# Altium footprint library Texas Instruments Footprints.PcbLib: 429 footprints (part 27 of 32)
Each footprint in its own frame and in the unit in brackets; x right, y up, seen from the top. Pads: shape width x height; smd on the part's side, far side on the other; paste and mask are expansions set on the pad; w line width, h text height; cw(c..) or ccw(c..) is an arc to the next point about the centre after c.
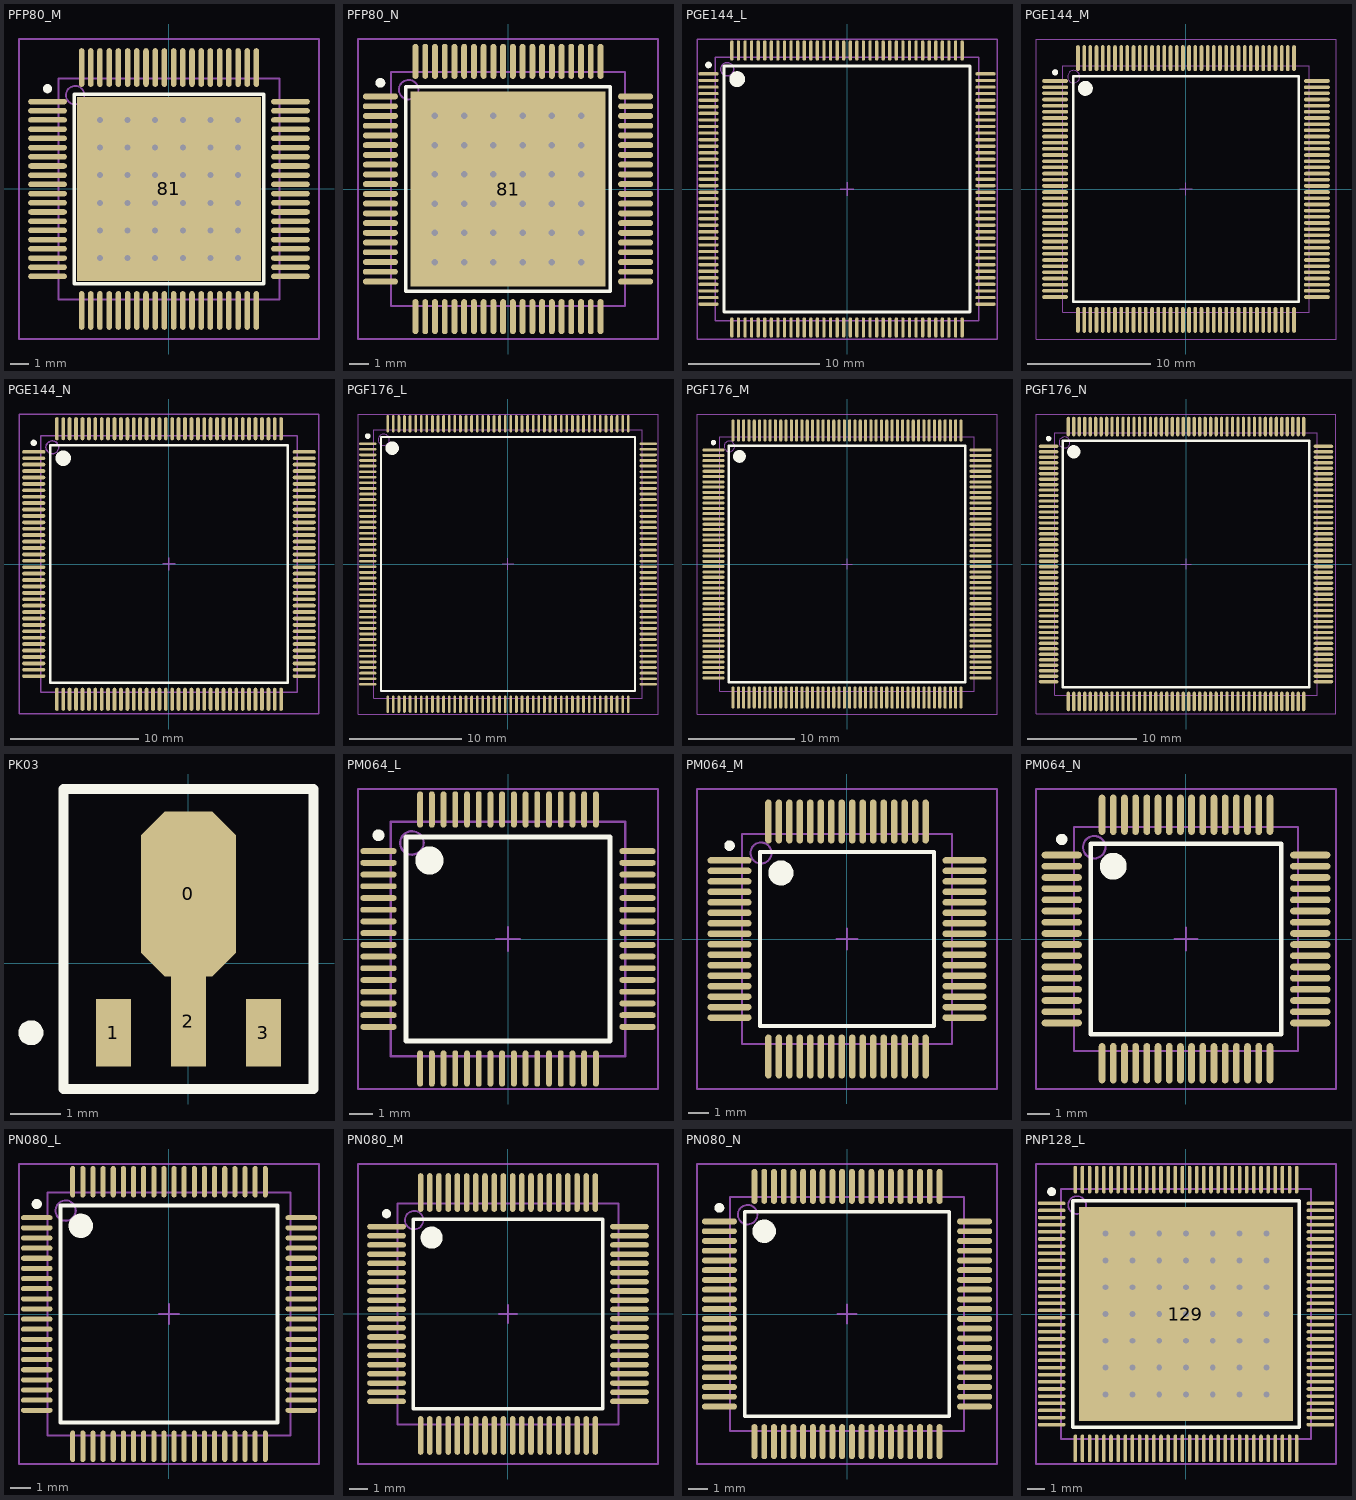
[diagram p26: the footprints below, top view; thin cyan lines are the x and y axes]

## PFP80_M [mm] "80-Pin Plastic Quad Flat Pack PowerPAD, IPC Low Density"
height 1.2
pads (81):
  oval 2.1x0.3 smd: 1(-6.6,4.75) 2(-6.6,4.25) 3(-6.6,3.75) 4(-6.6,3.25) 5(-6.6,2.75) 6(-6.6,2.25) 7(-6.6,1.75) 8(-6.6,1.25) 9(-6.6,0.75) 10(-6.6,0.25) 11(-6.6,-0.25) 12(-6.6,-0.75) 13(-6.6,-1.25) 14(-6.6,-1.75) 15(-6.6,-2.25) 16(-6.6,-2.75) 17(-6.6,-3.25) 18(-6.6,-3.75) 19(-6.6,-4.25) 20(-6.6,-4.75) 41(6.6,-4.75) 42(6.6,-4.25) 43(6.6,-3.75) 44(6.6,-3.25) 45(6.6,-2.75) 46(6.6,-2.25) 47(6.6,-1.75) 48(6.6,-1.25) 49(6.6,-0.75) 50(6.6,-0.25) 51(6.6,0.25) 52(6.6,0.75) 53(6.6,1.25) 54(6.6,1.75) 55(6.6,2.25) 56(6.6,2.75) 57(6.6,3.25) 58(6.6,3.75) 59(6.6,4.25) 60(6.6,4.75)
  oval 0.3x2.1 smd: 21(-4.75,-6.6) 22(-4.25,-6.6) 23(-3.75,-6.6) 24(-3.25,-6.6) 25(-2.75,-6.6) 26(-2.25,-6.6) 27(-1.75,-6.6) 28(-1.25,-6.6) 29(-0.75,-6.6) 30(-0.25,-6.6) 31(0.25,-6.6) 32(0.75,-6.6) 33(1.25,-6.6) 34(1.75,-6.6) 35(2.25,-6.6) 36(2.75,-6.6) 37(3.25,-6.6) 38(3.75,-6.6) 39(4.25,-6.6) 40(4.75,-6.6) 61(4.75,6.6) 62(4.25,6.6) 63(3.75,6.6) 64(3.25,6.6) 65(2.75,6.6) 66(2.25,6.6) 67(1.75,6.6) 68(1.25,6.6) 69(0.75,6.6) 70(0.25,6.6) 71(-0.25,6.6) 72(-0.75,6.6) 73(-1.25,6.6) 74(-1.75,6.6) 75(-2.25,6.6) 76(-2.75,6.6) 77(-3.25,6.6) 78(-3.75,6.6) 79(-4.25,6.6) 80(-4.75,6.6)
  rect 10x10 smd: 81(0,0)
via -0.75,-3.75 diameter 0.43 hole 0.33
via -2.25,-3.75 diameter 0.43 hole 0.33
via -3.75,-3.75 diameter 0.43 hole 0.33
via 0.75,-3.75 diameter 0.43 hole 0.33
via 2.25,-3.75 diameter 0.43 hole 0.33
via 3.75,-3.75 diameter 0.43 hole 0.33
via -0.75,-2.25 diameter 0.43 hole 0.33
via -2.25,-2.25 diameter 0.43 hole 0.33
via -3.75,-2.25 diameter 0.43 hole 0.33
via 0.75,-2.25 diameter 0.43 hole 0.33
via 2.25,-2.25 diameter 0.43 hole 0.33
via 3.75,-2.25 diameter 0.43 hole 0.33
via -0.75,-0.75 diameter 0.43 hole 0.33
via -2.25,-0.75 diameter 0.43 hole 0.33
via -3.75,-0.75 diameter 0.43 hole 0.33
via 0.75,-0.75 diameter 0.43 hole 0.33
via 2.25,-0.75 diameter 0.43 hole 0.33
via 3.75,-0.75 diameter 0.43 hole 0.33
via -0.75,3.75 diameter 0.43 hole 0.33
via -2.25,3.75 diameter 0.43 hole 0.33
via -3.75,3.75 diameter 0.43 hole 0.33
via 0.75,3.75 diameter 0.43 hole 0.33
via 2.25,3.75 diameter 0.43 hole 0.33
via 3.75,3.75 diameter 0.43 hole 0.33
via -0.75,2.25 diameter 0.43 hole 0.33
via -2.25,2.25 diameter 0.43 hole 0.33
via -3.75,2.25 diameter 0.43 hole 0.33
via 0.75,2.25 diameter 0.43 hole 0.33
via 2.25,2.25 diameter 0.43 hole 0.33
via 3.75,2.25 diameter 0.43 hole 0.33
via -0.75,0.75 diameter 0.43 hole 0.33
via -2.25,0.75 diameter 0.43 hole 0.33
via -3.75,0.75 diameter 0.43 hole 0.33
via 0.75,0.75 diameter 0.43 hole 0.33
via 2.25,0.75 diameter 0.43 hole 0.33
via 3.75,0.75 diameter 0.43 hole 0.33
Top Overlay:
  circle w0.25: c-6.6,5.45 r0.125
  circle w0.6: c-4.15,4.15 r0.3
  lines w0.2: -5.15,-5.15 -5.15,5.15 5.15,5.15 5.15,-5.15 -5.15,-5.15
Mechanical 13:
  circle w0.1: c-5.1,5.1 r0.5
  lines w0.1: -6,-6 -6,6 6,6 6,-6 -6,-6
Mechanical 15:
  lines w0.1: -0.5,0 0.5,0 ; 0,-0.5 0,0.5 ; -8.15,-8.15 -8.15,8.15 8.15,8.15 8.15,-8.15 -8.15,-8.15
3D body: height 1.2, standoff 0, extent -6,-6 6,6

## PFP80_N [mm] "80-Pin Plastic Quad Flat Pack PowerPAD, IPC Medium Density"
height 1.2
pads (81):
  oval 1.8x0.3 smd: 1(-6.55,4.75) 2(-6.55,4.25) 3(-6.55,3.75) 4(-6.55,3.25) 5(-6.55,2.75) 6(-6.55,2.25) 7(-6.55,1.75) 8(-6.55,1.25) 9(-6.55,0.75) 10(-6.55,0.25) 11(-6.55,-0.25) 12(-6.55,-0.75) 13(-6.55,-1.25) 14(-6.55,-1.75) 15(-6.55,-2.25) 16(-6.55,-2.75) 17(-6.55,-3.25) 18(-6.55,-3.75) 19(-6.55,-4.25) 20(-6.55,-4.75) 41(6.55,-4.75) 42(6.55,-4.25) 43(6.55,-3.75) 44(6.55,-3.25) 45(6.55,-2.75) 46(6.55,-2.25) 47(6.55,-1.75) 48(6.55,-1.25) 49(6.55,-0.75) 50(6.55,-0.25) 51(6.55,0.25) 52(6.55,0.75) 53(6.55,1.25) 54(6.55,1.75) 55(6.55,2.25) 56(6.55,2.75) 57(6.55,3.25) 58(6.55,3.75) 59(6.55,4.25) 60(6.55,4.75)
  oval 0.3x1.8 smd: 21(-4.75,-6.55) 22(-4.25,-6.55) 23(-3.75,-6.55) 24(-3.25,-6.55) 25(-2.75,-6.55) 26(-2.25,-6.55) 27(-1.75,-6.55) 28(-1.25,-6.55) 29(-0.75,-6.55) 30(-0.25,-6.55) 31(0.25,-6.55) 32(0.75,-6.55) 33(1.25,-6.55) 34(1.75,-6.55) 35(2.25,-6.55) 36(2.75,-6.55) 37(3.25,-6.55) 38(3.75,-6.55) 39(4.25,-6.55) 40(4.75,-6.55) 61(4.75,6.55) 62(4.25,6.55) 63(3.75,6.55) 64(3.25,6.55) 65(2.75,6.55) 66(2.25,6.55) 67(1.75,6.55) 68(1.25,6.55) 69(0.75,6.55) 70(0.25,6.55) 71(-0.25,6.55) 72(-0.75,6.55) 73(-1.25,6.55) 74(-1.75,6.55) 75(-2.25,6.55) 76(-2.75,6.55) 77(-3.25,6.55) 78(-3.75,6.55) 79(-4.25,6.55) 80(-4.75,6.55)
  rect 10x10 smd: 81(0,0)
via 3.75,-0.75 diameter 0.43 hole 0.33
via 2.25,-0.75 diameter 0.43 hole 0.33
via 0.75,-0.75 diameter 0.43 hole 0.33
via -3.75,-0.75 diameter 0.43 hole 0.33
via -2.25,-0.75 diameter 0.43 hole 0.33
via -0.75,-0.75 diameter 0.43 hole 0.33
via 3.75,-2.25 diameter 0.43 hole 0.33
via 2.25,-2.25 diameter 0.43 hole 0.33
via 0.75,-2.25 diameter 0.43 hole 0.33
via -3.75,-2.25 diameter 0.43 hole 0.33
via -2.25,-2.25 diameter 0.43 hole 0.33
via -0.75,-2.25 diameter 0.43 hole 0.33
via 3.75,-3.75 diameter 0.43 hole 0.33
via 2.25,-3.75 diameter 0.43 hole 0.33
via 0.75,-3.75 diameter 0.43 hole 0.33
via -3.75,-3.75 diameter 0.43 hole 0.33
via -2.25,-3.75 diameter 0.43 hole 0.33
via -0.75,-3.75 diameter 0.43 hole 0.33
via 3.75,0.75 diameter 0.43 hole 0.33
via 2.25,0.75 diameter 0.43 hole 0.33
via 0.75,0.75 diameter 0.43 hole 0.33
via -3.75,0.75 diameter 0.43 hole 0.33
via -2.25,0.75 diameter 0.43 hole 0.33
via -0.75,0.75 diameter 0.43 hole 0.33
via 3.75,2.25 diameter 0.43 hole 0.33
via 2.25,2.25 diameter 0.43 hole 0.33
via 0.75,2.25 diameter 0.43 hole 0.33
via -3.75,2.25 diameter 0.43 hole 0.33
via -2.25,2.25 diameter 0.43 hole 0.33
via -0.75,2.25 diameter 0.43 hole 0.33
via 3.75,3.75 diameter 0.43 hole 0.33
via 2.25,3.75 diameter 0.43 hole 0.33
via 0.75,3.75 diameter 0.43 hole 0.33
via -3.75,3.75 diameter 0.43 hole 0.33
via -2.25,3.75 diameter 0.43 hole 0.33
via -0.75,3.75 diameter 0.43 hole 0.33
Top Overlay:
  circle w0.25: c-6.55,5.45 r0.125
  circle w0.6: c-4.25,4.25 r0.3
  lines w0.2: -5.25,-5.25 -5.25,5.25 5.25,5.25 5.25,-5.25 -5.25,-5.25
Mechanical 13:
  circle w0.1: c-5.1,5.1 r0.5
  lines w0.1: -6,-6 -6,6 6,6 6,-6 -6,-6
Mechanical 15:
  lines w0.1: -0.5,0 0.5,0 ; 0,-0.5 0,0.5 ; -7.7,-7.7 -7.7,7.7 7.7,7.7 7.7,-7.7 -7.7,-7.7
3D body: height 1.2, standoff 0, extent -6,-6 6,6

## PGE144_L [mm] "144-Pin Thin Quad Flat Pack 0.5 mm Pitch, IPC High Density"
height 1.6
pads (144):
  oval 1.55x0.25 smd: 1(-10.525,8.75) 2(-10.525,8.25) 3(-10.525,7.75) 4(-10.525,7.25) 5(-10.525,6.75) 6(-10.525,6.25) 7(-10.525,5.75) 8(-10.525,5.25) 9(-10.525,4.75) 10(-10.525,4.25) 11(-10.525,3.75) 12(-10.525,3.25) 13(-10.525,2.75) 14(-10.525,2.25) 15(-10.525,1.75) 16(-10.525,1.25) 17(-10.525,0.75) 18(-10.525,0.25) 19(-10.525,-0.25) 20(-10.525,-0.75) 21(-10.525,-1.25) 22(-10.525,-1.75) 23(-10.525,-2.25) 24(-10.525,-2.75) 25(-10.525,-3.25) 26(-10.525,-3.75) 27(-10.525,-4.25) 28(-10.525,-4.75) 29(-10.525,-5.25) 30(-10.525,-5.75) 31(-10.525,-6.25) 32(-10.525,-6.75) 33(-10.525,-7.25) 34(-10.525,-7.75) 35(-10.525,-8.25) 36(-10.525,-8.75) 73(10.525,-8.75) 74(10.525,-8.25) 75(10.525,-7.75) 76(10.525,-7.25) 77(10.525,-6.75) 78(10.525,-6.25) 79(10.525,-5.75) 80(10.525,-5.25) 81(10.525,-4.75) 82(10.525,-4.25) 83(10.525,-3.75) 84(10.525,-3.25) 85(10.525,-2.75) 86(10.525,-2.25) 87(10.525,-1.75) 88(10.525,-1.25) 89(10.525,-0.75) 90(10.525,-0.25) 91(10.525,0.25) 92(10.525,0.75) 93(10.525,1.25) 94(10.525,1.75) 95(10.525,2.25) 96(10.525,2.75) 97(10.525,3.25) 98(10.525,3.75) 99(10.525,4.25) 100(10.525,4.75) 101(10.525,5.25) 102(10.525,5.75) 103(10.525,6.25) 104(10.525,6.75) 105(10.525,7.25) 106(10.525,7.75) 107(10.525,8.25) 108(10.525,8.75)
  oval 0.25x1.55 smd: 37(-8.75,-10.525) 38(-8.25,-10.525) 39(-7.75,-10.525) 40(-7.25,-10.525) 41(-6.75,-10.525) 42(-6.25,-10.525) 43(-5.75,-10.525) 44(-5.25,-10.525) 45(-4.75,-10.525) 46(-4.25,-10.525) 47(-3.75,-10.525) 48(-3.25,-10.525) 49(-2.75,-10.525) 50(-2.25,-10.525) 51(-1.75,-10.525) 52(-1.25,-10.525) 53(-0.75,-10.525) 54(-0.25,-10.525) 55(0.25,-10.525) 56(0.75,-10.525) 57(1.25,-10.525) 58(1.75,-10.525) 59(2.25,-10.525) 60(2.75,-10.525) 61(3.25,-10.525) 62(3.75,-10.525) 63(4.25,-10.525) 64(4.75,-10.525) 65(5.25,-10.525) 66(5.75,-10.525) 67(6.25,-10.525) 68(6.75,-10.525) 69(7.25,-10.525) 70(7.75,-10.525) 71(8.25,-10.525) 72(8.75,-10.525) 109(8.75,10.525) 110(8.25,10.525) 111(7.75,10.525) 112(7.25,10.525) 113(6.75,10.525) 114(6.25,10.525) 115(5.75,10.525) 116(5.25,10.525) 117(4.75,10.525) 118(4.25,10.525) 119(3.75,10.525) 120(3.25,10.525) 121(2.75,10.525) 122(2.25,10.525) 123(1.75,10.525) 124(1.25,10.525) 125(0.75,10.525) 126(0.25,10.525) 127(-0.25,10.525) 128(-0.75,10.525) 129(-1.25,10.525) 130(-1.75,10.525) 131(-2.25,10.525) 132(-2.75,10.525) 133(-3.25,10.525) 134(-3.75,10.525) 135(-4.25,10.525) 136(-4.75,10.525) 137(-5.25,10.525) 138(-5.75,10.525) 139(-6.25,10.525) 140(-6.75,10.525) 141(-7.25,10.525) 142(-7.75,10.525) 143(-8.25,10.525) 144(-8.75,10.525)
Top Overlay:
  circle w0.6: c-8.35,8.35 r0.3
  circle w0.25: c-10.525,9.425 r0.125
  lines w0.2: -9.35,-9.35 9.35,-9.35 9.35,9.35 -9.35,9.35 -9.35,-9.35
Mechanical 13:
  circle w0.1: c-9.1,9.1 r0.5
  lines w0.1: -10,-10 10,-10 10,10 -10,10 -10,-10
Mechanical 15:
  lines w0.1: -0.5,0 0.5,0 ; 0,-0.5 0,0.5 ; -11.4,-11.4 11.4,-11.4 11.4,11.4 -11.4,11.4 -11.4,-11.4
3D body: height 1.6, standoff 0, extent -10,-10 10,10

## PGE144_M [mm] "144-Pin Thin Quad Flat Pack 0.5 mm Pitch, IPC Low Density"
height 1.6
pads (144):
  oval 2.1x0.3 smd: 1(-10.6,8.75) 2(-10.6,8.25) 3(-10.6,7.75) 4(-10.6,7.25) 5(-10.6,6.75) 6(-10.6,6.25) 7(-10.6,5.75) 8(-10.6,5.25) 9(-10.6,4.75) 10(-10.6,4.25) 11(-10.6,3.75) 12(-10.6,3.25) 13(-10.6,2.75) 14(-10.6,2.25) 15(-10.6,1.75) 16(-10.6,1.25) 17(-10.6,0.75) 18(-10.6,0.25) 19(-10.6,-0.25) 20(-10.6,-0.75) 21(-10.6,-1.25) 22(-10.6,-1.75) 23(-10.6,-2.25) 24(-10.6,-2.75) 25(-10.6,-3.25) 26(-10.6,-3.75) 27(-10.6,-4.25) 28(-10.6,-4.75) 29(-10.6,-5.25) 30(-10.6,-5.75) 31(-10.6,-6.25) 32(-10.6,-6.75) 33(-10.6,-7.25) 34(-10.6,-7.75) 35(-10.6,-8.25) 36(-10.6,-8.75) 73(10.6,-8.75) 74(10.6,-8.25) 75(10.6,-7.75) 76(10.6,-7.25) 77(10.6,-6.75) 78(10.6,-6.25) 79(10.6,-5.75) 80(10.6,-5.25) 81(10.6,-4.75) 82(10.6,-4.25) 83(10.6,-3.75) 84(10.6,-3.25) 85(10.6,-2.75) 86(10.6,-2.25) 87(10.6,-1.75) 88(10.6,-1.25) 89(10.6,-0.75) 90(10.6,-0.25) 91(10.6,0.25) 92(10.6,0.75) 93(10.6,1.25) 94(10.6,1.75) 95(10.6,2.25) 96(10.6,2.75) 97(10.6,3.25) 98(10.6,3.75) 99(10.6,4.25) 100(10.6,4.75) 101(10.6,5.25) 102(10.6,5.75) 103(10.6,6.25) 104(10.6,6.75) 105(10.6,7.25) 106(10.6,7.75) 107(10.6,8.25) 108(10.6,8.75)
  oval 0.3x2.1 smd: 37(-8.75,-10.6) 38(-8.25,-10.6) 39(-7.75,-10.6) 40(-7.25,-10.6) 41(-6.75,-10.6) 42(-6.25,-10.6) 43(-5.75,-10.6) 44(-5.25,-10.6) 45(-4.75,-10.6) 46(-4.25,-10.6) 47(-3.75,-10.6) 48(-3.25,-10.6) 49(-2.75,-10.6) 50(-2.25,-10.6) 51(-1.75,-10.6) 52(-1.25,-10.6) 53(-0.75,-10.6) 54(-0.25,-10.6) 55(0.25,-10.6) 56(0.75,-10.6) 57(1.25,-10.6) 58(1.75,-10.6) 59(2.25,-10.6) 60(2.75,-10.6) 61(3.25,-10.6) 62(3.75,-10.6) 63(4.25,-10.6) 64(4.75,-10.6) 65(5.25,-10.6) 66(5.75,-10.6) 67(6.25,-10.6) 68(6.75,-10.6) 69(7.25,-10.6) 70(7.75,-10.6) 71(8.25,-10.6) 72(8.75,-10.6) 109(8.75,10.6) 110(8.25,10.6) 111(7.75,10.6) 112(7.25,10.6) 113(6.75,10.6) 114(6.25,10.6) 115(5.75,10.6) 116(5.25,10.6) 117(4.75,10.6) 118(4.25,10.6) 119(3.75,10.6) 120(3.25,10.6) 121(2.75,10.6) 122(2.25,10.6) 123(1.75,10.6) 124(1.25,10.6) 125(0.75,10.6) 126(0.25,10.6) 127(-0.25,10.6) 128(-0.75,10.6) 129(-1.25,10.6) 130(-1.75,10.6) 131(-2.25,10.6) 132(-2.75,10.6) 133(-3.25,10.6) 134(-3.75,10.6) 135(-4.25,10.6) 136(-4.75,10.6) 137(-5.25,10.6) 138(-5.75,10.6) 139(-6.25,10.6) 140(-6.75,10.6) 141(-7.25,10.6) 142(-7.75,10.6) 143(-8.25,10.6) 144(-8.75,10.6)
Top Overlay:
  circle w0.6: c-8.15,8.15 r0.3
  circle w0.25: c-10.6,9.45 r0.125
  lines w0.2: -9.15,-9.15 9.15,-9.15 9.15,9.15 -9.15,9.15 -9.15,-9.15
Mechanical 13:
  circle w0.1: c-9.1,9.1 r0.5
  lines w0.1: -10,-10 10,-10 10,10 -10,10 -10,-10
Mechanical 15:
  lines w0.1: -0.5,0 0.5,0 ; 0,-0.5 0,0.5 ; -12.15,-12.15 12.15,-12.15 12.15,12.15 -12.15,12.15 -12.15,-12.15
3D body: height 1.6, standoff 0, extent -10,-10 10,10

## PGE144_N [mm] "144-Pin Thin Quad Flat Pack 0.5 mm Pitch, IPC Medium Density"
height 1.6
pads (144):
  oval 1.8x0.3 smd: 1(-10.55,8.75) 2(-10.55,8.25) 3(-10.55,7.75) 4(-10.55,7.25) 5(-10.55,6.75) 6(-10.55,6.25) 7(-10.55,5.75) 8(-10.55,5.25) 9(-10.55,4.75) 10(-10.55,4.25) 11(-10.55,3.75) 12(-10.55,3.25) 13(-10.55,2.75) 14(-10.55,2.25) 15(-10.55,1.75) 16(-10.55,1.25) 17(-10.55,0.75) 18(-10.55,0.25) 19(-10.55,-0.25) 20(-10.55,-0.75) 21(-10.55,-1.25) 22(-10.55,-1.75) 23(-10.55,-2.25) 24(-10.55,-2.75) 25(-10.55,-3.25) 26(-10.55,-3.75) 27(-10.55,-4.25) 28(-10.55,-4.75) 29(-10.55,-5.25) 30(-10.55,-5.75) 31(-10.55,-6.25) 32(-10.55,-6.75) 33(-10.55,-7.25) 34(-10.55,-7.75) 35(-10.55,-8.25) 36(-10.55,-8.75) 73(10.55,-8.75) 74(10.55,-8.25) 75(10.55,-7.75) 76(10.55,-7.25) 77(10.55,-6.75) 78(10.55,-6.25) 79(10.55,-5.75) 80(10.55,-5.25) 81(10.55,-4.75) 82(10.55,-4.25) 83(10.55,-3.75) 84(10.55,-3.25) 85(10.55,-2.75) 86(10.55,-2.25) 87(10.55,-1.75) 88(10.55,-1.25) 89(10.55,-0.75) 90(10.55,-0.25) 91(10.55,0.25) 92(10.55,0.75) 93(10.55,1.25) 94(10.55,1.75) 95(10.55,2.25) 96(10.55,2.75) 97(10.55,3.25) 98(10.55,3.75) 99(10.55,4.25) 100(10.55,4.75) 101(10.55,5.25) 102(10.55,5.75) 103(10.55,6.25) 104(10.55,6.75) 105(10.55,7.25) 106(10.55,7.75) 107(10.55,8.25) 108(10.55,8.75)
  oval 0.3x1.8 smd: 37(-8.75,-10.55) 38(-8.25,-10.55) 39(-7.75,-10.55) 40(-7.25,-10.55) 41(-6.75,-10.55) 42(-6.25,-10.55) 43(-5.75,-10.55) 44(-5.25,-10.55) 45(-4.75,-10.55) 46(-4.25,-10.55) 47(-3.75,-10.55) 48(-3.25,-10.55) 49(-2.75,-10.55) 50(-2.25,-10.55) 51(-1.75,-10.55) 52(-1.25,-10.55) 53(-0.75,-10.55) 54(-0.25,-10.55) 55(0.25,-10.55) 56(0.75,-10.55) 57(1.25,-10.55) 58(1.75,-10.55) 59(2.25,-10.55) 60(2.75,-10.55) 61(3.25,-10.55) 62(3.75,-10.55) 63(4.25,-10.55) 64(4.75,-10.55) 65(5.25,-10.55) 66(5.75,-10.55) 67(6.25,-10.55) 68(6.75,-10.55) 69(7.25,-10.55) 70(7.75,-10.55) 71(8.25,-10.55) 72(8.75,-10.55) 109(8.75,10.55) 110(8.25,10.55) 111(7.75,10.55) 112(7.25,10.55) 113(6.75,10.55) 114(6.25,10.55) 115(5.75,10.55) 116(5.25,10.55) 117(4.75,10.55) 118(4.25,10.55) 119(3.75,10.55) 120(3.25,10.55) 121(2.75,10.55) 122(2.25,10.55) 123(1.75,10.55) 124(1.25,10.55) 125(0.75,10.55) 126(0.25,10.55) 127(-0.25,10.55) 128(-0.75,10.55) 129(-1.25,10.55) 130(-1.75,10.55) 131(-2.25,10.55) 132(-2.75,10.55) 133(-3.25,10.55) 134(-3.75,10.55) 135(-4.25,10.55) 136(-4.75,10.55) 137(-5.25,10.55) 138(-5.75,10.55) 139(-6.25,10.55) 140(-6.75,10.55) 141(-7.25,10.55) 142(-7.75,10.55) 143(-8.25,10.55) 144(-8.75,10.55)
Top Overlay:
  circle w0.25: c-10.55,9.45 r0.125
  circle w0.6: c-8.25,8.25 r0.3
  lines w0.2: -9.25,-9.25 -9.25,9.25 9.25,9.25 9.25,-9.25 -9.25,-9.25
Mechanical 13:
  circle w0.1: c-9.1,9.1 r0.5
  lines w0.1: -10,-10 -10,10 10,10 10,-10 -10,-10
Mechanical 15:
  lines w0.1: -0.5,0 0.5,0 ; 0,-0.5 0,0.5 ; -11.7,-11.7 -11.7,11.7 11.7,11.7 11.7,-11.7 -11.7,-11.7
3D body: height 1.6, standoff 0, extent -10,-10 10,10

## PGF176_L [mm] "176-Pin Thin Quad Flat Pack 0.5 mm Pitch, IPC High Density"
height 1.6
pads (176):
  oval 1.55x0.25 smd: 1(-12.525,10.75) 2(-12.525,10.25) 3(-12.525,9.75) 4(-12.525,9.25) 5(-12.525,8.75) 6(-12.525,8.25) 7(-12.525,7.75) 8(-12.525,7.25) 9(-12.525,6.75) 10(-12.525,6.25) 11(-12.525,5.75) 12(-12.525,5.25) 13(-12.525,4.75) 14(-12.525,4.25) 15(-12.525,3.75) 16(-12.525,3.25) 17(-12.525,2.75) 18(-12.525,2.25) 19(-12.525,1.75) 20(-12.525,1.25) 21(-12.525,0.75) 22(-12.525,0.25) 23(-12.525,-0.25) 24(-12.525,-0.75) 25(-12.525,-1.25) 26(-12.525,-1.75) 27(-12.525,-2.25) 28(-12.525,-2.75) 29(-12.525,-3.25) 30(-12.525,-3.75) 31(-12.525,-4.25) 32(-12.525,-4.75) 33(-12.525,-5.25) 34(-12.525,-5.75) 35(-12.525,-6.25) 36(-12.525,-6.75) 37(-12.525,-7.25) 38(-12.525,-7.75) 39(-12.525,-8.25) 40(-12.525,-8.75) 41(-12.525,-9.25) 42(-12.525,-9.75) 43(-12.525,-10.25) 44(-12.525,-10.75) 89(12.525,-10.75) 90(12.525,-10.25) 91(12.525,-9.75) 92(12.525,-9.25) 93(12.525,-8.75) 94(12.525,-8.25) 95(12.525,-7.75) 96(12.525,-7.25) 97(12.525,-6.75) 98(12.525,-6.25) 99(12.525,-5.75) 100(12.525,-5.25) 101(12.525,-4.75) 102(12.525,-4.25) 103(12.525,-3.75) 104(12.525,-3.25) 105(12.525,-2.75) 106(12.525,-2.25) 107(12.525,-1.75) 108(12.525,-1.25) 109(12.525,-0.75) 110(12.525,-0.25) 111(12.525,0.25) 112(12.525,0.75) 113(12.525,1.25) 114(12.525,1.75) 115(12.525,2.25) 116(12.525,2.75) 117(12.525,3.25) 118(12.525,3.75) 119(12.525,4.25) 120(12.525,4.75) 121(12.525,5.25) 122(12.525,5.75) 123(12.525,6.25) 124(12.525,6.75) 125(12.525,7.25) 126(12.525,7.75) 127(12.525,8.25) 128(12.525,8.75) 129(12.525,9.25) 130(12.525,9.75) 131(12.525,10.25) 132(12.525,10.75)
  oval 0.25x1.55 smd: 45(-10.75,-12.525) 46(-10.25,-12.525) 47(-9.75,-12.525) 48(-9.25,-12.525) 49(-8.75,-12.525) 50(-8.25,-12.525) 51(-7.75,-12.525) 52(-7.25,-12.525) 53(-6.75,-12.525) 54(-6.25,-12.525) 55(-5.75,-12.525) 56(-5.25,-12.525) 57(-4.75,-12.525) 58(-4.25,-12.525) 59(-3.75,-12.525) 60(-3.25,-12.525) 61(-2.75,-12.525) 62(-2.25,-12.525) 63(-1.75,-12.525) 64(-1.25,-12.525) 65(-0.75,-12.525) 66(-0.25,-12.525) 67(0.25,-12.525) 68(0.75,-12.525) 69(1.25,-12.525) 70(1.75,-12.525) 71(2.25,-12.525) 72(2.75,-12.525) 73(3.25,-12.525) 74(3.75,-12.525) 75(4.25,-12.525) 76(4.75,-12.525) 77(5.25,-12.525) 78(5.75,-12.525) 79(6.25,-12.525) 80(6.75,-12.525) 81(7.25,-12.525) 82(7.75,-12.525) 83(8.25,-12.525) 84(8.75,-12.525) 85(9.25,-12.525) 86(9.75,-12.525) 87(10.25,-12.525) 88(10.75,-12.525) 133(10.75,12.525) 134(10.25,12.525) 135(9.75,12.525) 136(9.25,12.525) 137(8.75,12.525) 138(8.25,12.525) 139(7.75,12.525) 140(7.25,12.525) 141(6.75,12.525) 142(6.25,12.525) 143(5.75,12.525) 144(5.25,12.525) 145(4.75,12.525) 146(4.25,12.525) 147(3.75,12.525) 148(3.25,12.525) 149(2.75,12.525) 150(2.25,12.525) 151(1.75,12.525) 152(1.25,12.525) 153(0.75,12.525) 154(0.25,12.525) 155(-0.25,12.525) 156(-0.75,12.525) 157(-1.25,12.525) 158(-1.75,12.525) 159(-2.25,12.525) 160(-2.75,12.525) 161(-3.25,12.525) 162(-3.75,12.525) 163(-4.25,12.525) 164(-4.75,12.525) 165(-5.25,12.525) 166(-5.75,12.525) 167(-6.25,12.525) 168(-6.75,12.525) 169(-7.25,12.525) 170(-7.75,12.525) 171(-8.25,12.525) 172(-8.75,12.525) 173(-9.25,12.525) 174(-9.75,12.525) 175(-10.25,12.525) 176(-10.75,12.525)
Top Overlay:
  circle w0.6: c-10.35,10.35 r0.3
  circle w0.25: c-12.525,11.425 r0.125
  lines w0.2: -11.35,-11.35 11.35,-11.35 11.35,11.35 -11.35,11.35 -11.35,-11.35
Mechanical 13:
  circle w0.1: c-11.1,11.1 r0.5
  lines w0.1: -12,-12 12,-12 12,12 -12,12 -12,-12
Mechanical 15:
  lines w0.1: -0.5,0 0.5,0 ; 0,-0.5 0,0.5 ; -13.4,-13.4 13.4,-13.4 13.4,13.4 -13.4,13.4 -13.4,-13.4
3D body: height 1.6, standoff 0, extent -12,-12 12,12

## PGF176_M [mm] "176-Pin Thin Quad Flat Pack 0.5 mm Pitch, IPC Low Density"
height 1.6
pads (176):
  oval 2.1x0.3 smd: 1(-12.6,10.75) 2(-12.6,10.25) 3(-12.6,9.75) 4(-12.6,9.25) 5(-12.6,8.75) 6(-12.6,8.25) 7(-12.6,7.75) 8(-12.6,7.25) 9(-12.6,6.75) 10(-12.6,6.25) 11(-12.6,5.75) 12(-12.6,5.25) 13(-12.6,4.75) 14(-12.6,4.25) 15(-12.6,3.75) 16(-12.6,3.25) 17(-12.6,2.75) 18(-12.6,2.25) 19(-12.6,1.75) 20(-12.6,1.25) 21(-12.6,0.75) 22(-12.6,0.25) 23(-12.6,-0.25) 24(-12.6,-0.75) 25(-12.6,-1.25) 26(-12.6,-1.75) 27(-12.6,-2.25) 28(-12.6,-2.75) 29(-12.6,-3.25) 30(-12.6,-3.75) 31(-12.6,-4.25) 32(-12.6,-4.75) 33(-12.6,-5.25) 34(-12.6,-5.75) 35(-12.6,-6.25) 36(-12.6,-6.75) 37(-12.6,-7.25) 38(-12.6,-7.75) 39(-12.6,-8.25) 40(-12.6,-8.75) 41(-12.6,-9.25) 42(-12.6,-9.75) 43(-12.6,-10.25) 44(-12.6,-10.75) 89(12.6,-10.75) 90(12.6,-10.25) 91(12.6,-9.75) 92(12.6,-9.25) 93(12.6,-8.75) 94(12.6,-8.25) 95(12.6,-7.75) 96(12.6,-7.25) 97(12.6,-6.75) 98(12.6,-6.25) 99(12.6,-5.75) 100(12.6,-5.25) 101(12.6,-4.75) 102(12.6,-4.25) 103(12.6,-3.75) 104(12.6,-3.25) 105(12.6,-2.75) 106(12.6,-2.25) 107(12.6,-1.75) 108(12.6,-1.25) 109(12.6,-0.75) 110(12.6,-0.25) 111(12.6,0.25) 112(12.6,0.75) 113(12.6,1.25) 114(12.6,1.75) 115(12.6,2.25) 116(12.6,2.75) 117(12.6,3.25) 118(12.6,3.75) 119(12.6,4.25) 120(12.6,4.75) 121(12.6,5.25) 122(12.6,5.75) 123(12.6,6.25) 124(12.6,6.75) 125(12.6,7.25) 126(12.6,7.75) 127(12.6,8.25) 128(12.6,8.75) 129(12.6,9.25) 130(12.6,9.75) 131(12.6,10.25) 132(12.6,10.75)
  oval 0.3x2.1 smd: 45(-10.75,-12.6) 46(-10.25,-12.6) 47(-9.75,-12.6) 48(-9.25,-12.6) 49(-8.75,-12.6) 50(-8.25,-12.6) 51(-7.75,-12.6) 52(-7.25,-12.6) 53(-6.75,-12.6) 54(-6.25,-12.6) 55(-5.75,-12.6) 56(-5.25,-12.6) 57(-4.75,-12.6) 58(-4.25,-12.6) 59(-3.75,-12.6) 60(-3.25,-12.6) 61(-2.75,-12.6) 62(-2.25,-12.6) 63(-1.75,-12.6) 64(-1.25,-12.6) 65(-0.75,-12.6) 66(-0.25,-12.6) 67(0.25,-12.6) 68(0.75,-12.6) 69(1.25,-12.6) 70(1.75,-12.6) 71(2.25,-12.6) 72(2.75,-12.6) 73(3.25,-12.6) 74(3.75,-12.6) 75(4.25,-12.6) 76(4.75,-12.6) 77(5.25,-12.6) 78(5.75,-12.6) 79(6.25,-12.6) 80(6.75,-12.6) 81(7.25,-12.6) 82(7.75,-12.6) 83(8.25,-12.6) 84(8.75,-12.6) 85(9.25,-12.6) 86(9.75,-12.6) 87(10.25,-12.6) 88(10.75,-12.6) 133(10.75,12.6) 134(10.25,12.6) 135(9.75,12.6) 136(9.25,12.6) 137(8.75,12.6) 138(8.25,12.6) 139(7.75,12.6) 140(7.25,12.6) 141(6.75,12.6) 142(6.25,12.6) 143(5.75,12.6) 144(5.25,12.6) 145(4.75,12.6) 146(4.25,12.6) 147(3.75,12.6) 148(3.25,12.6) 149(2.75,12.6) 150(2.25,12.6) 151(1.75,12.6) 152(1.25,12.6) 153(0.75,12.6) 154(0.25,12.6) 155(-0.25,12.6) 156(-0.75,12.6) 157(-1.25,12.6) 158(-1.75,12.6) 159(-2.25,12.6) 160(-2.75,12.6) 161(-3.25,12.6) 162(-3.75,12.6) 163(-4.25,12.6) 164(-4.75,12.6) 165(-5.25,12.6) 166(-5.75,12.6) 167(-6.25,12.6) 168(-6.75,12.6) 169(-7.25,12.6) 170(-7.75,12.6) 171(-8.25,12.6) 172(-8.75,12.6) 173(-9.25,12.6) 174(-9.75,12.6) 175(-10.25,12.6) 176(-10.75,12.6)
Top Overlay:
  circle w0.6: c-10.15,10.15 r0.3
  circle w0.25: c-12.6,11.45 r0.125
  lines w0.2: -11.15,-11.15 11.15,-11.15 11.15,11.15 -11.15,11.15 -11.15,-11.15
Mechanical 13:
  circle w0.1: c-11.1,11.1 r0.5
  lines w0.1: -12,-12 12,-12 12,12 -12,12 -12,-12
Mechanical 15:
  lines w0.1: -0.5,0 0.5,0 ; 0,-0.5 0,0.5 ; -14.15,-14.15 14.15,-14.15 14.15,14.15 -14.15,14.15 -14.15,-14.15
3D body: height 1.6, standoff 0, extent -12,-12 12,12

## PGF176_N [mm] "176-Pin Thin Quad Flat Pack 0.5 mm Pitch, IPC Medium Density"
height 1.6
pads (176):
  oval 1.8x0.3 smd: 1(-12.55,10.75) 2(-12.55,10.25) 3(-12.55,9.75) 4(-12.55,9.25) 5(-12.55,8.75) 6(-12.55,8.25) 7(-12.55,7.75) 8(-12.55,7.25) 9(-12.55,6.75) 10(-12.55,6.25) 11(-12.55,5.75) 12(-12.55,5.25) 13(-12.55,4.75) 14(-12.55,4.25) 15(-12.55,3.75) 16(-12.55,3.25) 17(-12.55,2.75) 18(-12.55,2.25) 19(-12.55,1.75) 20(-12.55,1.25) 21(-12.55,0.75) 22(-12.55,0.25) 23(-12.55,-0.25) 24(-12.55,-0.75) 25(-12.55,-1.25) 26(-12.55,-1.75) 27(-12.55,-2.25) 28(-12.55,-2.75) 29(-12.55,-3.25) 30(-12.55,-3.75) 31(-12.55,-4.25) 32(-12.55,-4.75) 33(-12.55,-5.25) 34(-12.55,-5.75) 35(-12.55,-6.25) 36(-12.55,-6.75) 37(-12.55,-7.25) 38(-12.55,-7.75) 39(-12.55,-8.25) 40(-12.55,-8.75) 41(-12.55,-9.25) 42(-12.55,-9.75) 43(-12.55,-10.25) 44(-12.55,-10.75) 89(12.55,-10.75) 90(12.55,-10.25) 91(12.55,-9.75) 92(12.55,-9.25) 93(12.55,-8.75) 94(12.55,-8.25) 95(12.55,-7.75) 96(12.55,-7.25) 97(12.55,-6.75) 98(12.55,-6.25) 99(12.55,-5.75) 100(12.55,-5.25) 101(12.55,-4.75) 102(12.55,-4.25) 103(12.55,-3.75) 104(12.55,-3.25) 105(12.55,-2.75) 106(12.55,-2.25) 107(12.55,-1.75) 108(12.55,-1.25) 109(12.55,-0.75) 110(12.55,-0.25) 111(12.55,0.25) 112(12.55,0.75) 113(12.55,1.25) 114(12.55,1.75) 115(12.55,2.25) 116(12.55,2.75) 117(12.55,3.25) 118(12.55,3.75) 119(12.55,4.25) 120(12.55,4.75) 121(12.55,5.25) 122(12.55,5.75) 123(12.55,6.25) 124(12.55,6.75) 125(12.55,7.25) 126(12.55,7.75) 127(12.55,8.25) 128(12.55,8.75) 129(12.55,9.25) 130(12.55,9.75) 131(12.55,10.25) 132(12.55,10.75)
  oval 0.3x1.8 smd: 45(-10.75,-12.55) 46(-10.25,-12.55) 47(-9.75,-12.55) 48(-9.25,-12.55) 49(-8.75,-12.55) 50(-8.25,-12.55) 51(-7.75,-12.55) 52(-7.25,-12.55) 53(-6.75,-12.55) 54(-6.25,-12.55) 55(-5.75,-12.55) 56(-5.25,-12.55) 57(-4.75,-12.55) 58(-4.25,-12.55) 59(-3.75,-12.55) 60(-3.25,-12.55) 61(-2.75,-12.55) 62(-2.25,-12.55) 63(-1.75,-12.55) 64(-1.25,-12.55) 65(-0.75,-12.55) 66(-0.25,-12.55) 67(0.25,-12.55) 68(0.75,-12.55) 69(1.25,-12.55) 70(1.75,-12.55) 71(2.25,-12.55) 72(2.75,-12.55) 73(3.25,-12.55) 74(3.75,-12.55) 75(4.25,-12.55) 76(4.75,-12.55) 77(5.25,-12.55) 78(5.75,-12.55) 79(6.25,-12.55) 80(6.75,-12.55) 81(7.25,-12.55) 82(7.75,-12.55) 83(8.25,-12.55) 84(8.75,-12.55) 85(9.25,-12.55) 86(9.75,-12.55) 87(10.25,-12.55) 88(10.75,-12.55) 133(10.75,12.55) 134(10.25,12.55) 135(9.75,12.55) 136(9.25,12.55) 137(8.75,12.55) 138(8.25,12.55) 139(7.75,12.55) 140(7.25,12.55) 141(6.75,12.55) 142(6.25,12.55) 143(5.75,12.55) 144(5.25,12.55) 145(4.75,12.55) 146(4.25,12.55) 147(3.75,12.55) 148(3.25,12.55) 149(2.75,12.55) 150(2.25,12.55) 151(1.75,12.55) 152(1.25,12.55) 153(0.75,12.55) 154(0.25,12.55) 155(-0.25,12.55) 156(-0.75,12.55) 157(-1.25,12.55) 158(-1.75,12.55) 159(-2.25,12.55) 160(-2.75,12.55) 161(-3.25,12.55) 162(-3.75,12.55) 163(-4.25,12.55) 164(-4.75,12.55) 165(-5.25,12.55) 166(-5.75,12.55) 167(-6.25,12.55) 168(-6.75,12.55) 169(-7.25,12.55) 170(-7.75,12.55) 171(-8.25,12.55) 172(-8.75,12.55) 173(-9.25,12.55) 174(-9.75,12.55) 175(-10.25,12.55) 176(-10.75,12.55)
Top Overlay:
  circle w0.25: c-12.55,11.45 r0.125
  circle w0.6: c-10.25,10.25 r0.3
  lines w0.2: -11.25,-11.25 -11.25,11.25 11.25,11.25 11.25,-11.25 -11.25,-11.25
Mechanical 13:
  circle w0.1: c-11.1,11.1 r0.5
  lines w0.1: -12,-12 -12,12 12,12 12,-12 -12,-12
Mechanical 15:
  lines w0.1: -0.5,0 0.5,0 ; 0,-0.5 0,0.5 ; -13.7,-13.7 -13.7,13.7 13.7,13.7 13.7,-13.7 -13.7,-13.7
3D body: height 1.6, standoff 0, extent -12,-12 12,12

## PK03 [mm] "SOT-89; Body 4.6 x 4.25 mm, inc. leads (LxW max)"
height 1.6
pads (4):
  oct 1.9x3.3 smd: 0(0,1.388)
  rect 0.7x1.35 smd: 1(-1.5,-1.388) 3(1.5,-1.388)
  rect 0.7x1.8 smd: 2(0,-1.162)
Top Overlay:
  circle w0.25: c-3.15,-1.388 r0.125
  lines w0.2: -2.5,-2.512 2.5,-2.512 2.5,3.487 -2.5,3.487 -2.5,-2.512

## PM064_L [mm] "64-Pin Thin Quad Flat Pack 0.5 mm Pitch, IPC High Density"
height 1.6
pads (64):
  oval 1.55x0.25 smd: 1(-5.525,3.75) 2(-5.525,3.25) 3(-5.525,2.75) 4(-5.525,2.25) 5(-5.525,1.75) 6(-5.525,1.25) 7(-5.525,0.75) 8(-5.525,0.25) 9(-5.525,-0.25) 10(-5.525,-0.75) 11(-5.525,-1.25) 12(-5.525,-1.75) 13(-5.525,-2.25) 14(-5.525,-2.75) 15(-5.525,-3.25) 16(-5.525,-3.75) 33(5.525,-3.75) 34(5.525,-3.25) 35(5.525,-2.75) 36(5.525,-2.25) 37(5.525,-1.75) 38(5.525,-1.25) 39(5.525,-0.75) 40(5.525,-0.25) 41(5.525,0.25) 42(5.525,0.75) 43(5.525,1.25) 44(5.525,1.75) 45(5.525,2.25) 46(5.525,2.75) 47(5.525,3.25) 48(5.525,3.75)
  oval 0.25x1.55 smd: 17(-3.75,-5.525) 18(-3.25,-5.525) 19(-2.75,-5.525) 20(-2.25,-5.525) 21(-1.75,-5.525) 22(-1.25,-5.525) 23(-0.75,-5.525) 24(-0.25,-5.525) 25(0.25,-5.525) 26(0.75,-5.525) 27(1.25,-5.525) 28(1.75,-5.525) 29(2.25,-5.525) 30(2.75,-5.525) 31(3.25,-5.525) 32(3.75,-5.525) 49(3.75,5.525) 50(3.25,5.525) 51(2.75,5.525) 52(2.25,5.525) 53(1.75,5.525) 54(1.25,5.525) 55(0.75,5.525) 56(0.25,5.525) 57(-0.25,5.525) 58(-0.75,5.525) 59(-1.25,5.525) 60(-1.75,5.525) 61(-2.25,5.525) 62(-2.75,5.525) 63(-3.25,5.525) 64(-3.75,5.525)
Top Overlay:
  circle w0.6: c-3.35,3.35 r0.3
  circle w0.25: c-5.525,4.425 r0.125
  lines w0.2: -4.35,-4.35 4.35,-4.35 4.35,4.35 -4.35,4.35 -4.35,-4.35
Mechanical 13:
  circle w0.1: c-4.1,4.1 r0.5
  lines w0.1: -5,-5 5,-5 5,5 -5,5 -5,-5
Mechanical 15:
  lines w0.1: -0.5,0 0.5,0 ; 0,-0.5 0,0.5 ; -6.4,-6.4 6.4,-6.4 6.4,6.4 -6.4,6.4 -6.4,-6.4
3D body: height 1.6, standoff 0, extent -5,-5 5,5

## PM064_M [mm] "64-Pin Thin Quad Flat Pack 0.5 mm Pitch, IPC Low Density"
height 1.6
pads (64):
  oval 2.1x0.3 smd: 1(-5.6,3.75) 2(-5.6,3.25) 3(-5.6,2.75) 4(-5.6,2.25) 5(-5.6,1.75) 6(-5.6,1.25) 7(-5.6,0.75) 8(-5.6,0.25) 9(-5.6,-0.25) 10(-5.6,-0.75) 11(-5.6,-1.25) 12(-5.6,-1.75) 13(-5.6,-2.25) 14(-5.6,-2.75) 15(-5.6,-3.25) 16(-5.6,-3.75) 33(5.6,-3.75) 34(5.6,-3.25) 35(5.6,-2.75) 36(5.6,-2.25) 37(5.6,-1.75) 38(5.6,-1.25) 39(5.6,-0.75) 40(5.6,-0.25) 41(5.6,0.25) 42(5.6,0.75) 43(5.6,1.25) 44(5.6,1.75) 45(5.6,2.25) 46(5.6,2.75) 47(5.6,3.25) 48(5.6,3.75)
  oval 0.3x2.1 smd: 17(-3.75,-5.6) 18(-3.25,-5.6) 19(-2.75,-5.6) 20(-2.25,-5.6) 21(-1.75,-5.6) 22(-1.25,-5.6) 23(-0.75,-5.6) 24(-0.25,-5.6) 25(0.25,-5.6) 26(0.75,-5.6) 27(1.25,-5.6) 28(1.75,-5.6) 29(2.25,-5.6) 30(2.75,-5.6) 31(3.25,-5.6) 32(3.75,-5.6) 49(3.75,5.6) 50(3.25,5.6) 51(2.75,5.6) 52(2.25,5.6) 53(1.75,5.6) 54(1.25,5.6) 55(0.75,5.6) 56(0.25,5.6) 57(-0.25,5.6) 58(-0.75,5.6) 59(-1.25,5.6) 60(-1.75,5.6) 61(-2.25,5.6) 62(-2.75,5.6) 63(-3.25,5.6) 64(-3.75,5.6)
Top Overlay:
  circle w0.6: c-3.15,3.15 r0.3
  circle w0.25: c-5.6,4.45 r0.125
  lines w0.2: -4.15,-4.15 4.15,-4.15 4.15,4.15 -4.15,4.15 -4.15,-4.15
Mechanical 13:
  circle w0.1: c-4.1,4.1 r0.5
  lines w0.1: -5,-5 5,-5 5,5 -5,5 -5,-5
Mechanical 15:
  lines w0.1: -0.5,0 0.5,0 ; 0,-0.5 0,0.5 ; -7.15,-7.15 7.15,-7.15 7.15,7.15 -7.15,7.15 -7.15,-7.15
3D body: height 1.6, standoff 0, extent -5,-5 5,5

## PM064_N [mm] "64-Pin Thin Quad Flat Pack 0.5 mm Pitch, IPC Medium Density"
height 1.6
pads (64):
  oval 1.8x0.3 smd: 1(-5.55,3.75) 2(-5.55,3.25) 3(-5.55,2.75) 4(-5.55,2.25) 5(-5.55,1.75) 6(-5.55,1.25) 7(-5.55,0.75) 8(-5.55,0.25) 9(-5.55,-0.25) 10(-5.55,-0.75) 11(-5.55,-1.25) 12(-5.55,-1.75) 13(-5.55,-2.25) 14(-5.55,-2.75) 15(-5.55,-3.25) 16(-5.55,-3.75) 33(5.55,-3.75) 34(5.55,-3.25) 35(5.55,-2.75) 36(5.55,-2.25) 37(5.55,-1.75) 38(5.55,-1.25) 39(5.55,-0.75) 40(5.55,-0.25) 41(5.55,0.25) 42(5.55,0.75) 43(5.55,1.25) 44(5.55,1.75) 45(5.55,2.25) 46(5.55,2.75) 47(5.55,3.25) 48(5.55,3.75)
  oval 0.3x1.8 smd: 17(-3.75,-5.55) 18(-3.25,-5.55) 19(-2.75,-5.55) 20(-2.25,-5.55) 21(-1.75,-5.55) 22(-1.25,-5.55) 23(-0.75,-5.55) 24(-0.25,-5.55) 25(0.25,-5.55) 26(0.75,-5.55) 27(1.25,-5.55) 28(1.75,-5.55) 29(2.25,-5.55) 30(2.75,-5.55) 31(3.25,-5.55) 32(3.75,-5.55) 49(3.75,5.55) 50(3.25,5.55) 51(2.75,5.55) 52(2.25,5.55) 53(1.75,5.55) 54(1.25,5.55) 55(0.75,5.55) 56(0.25,5.55) 57(-0.25,5.55) 58(-0.75,5.55) 59(-1.25,5.55) 60(-1.75,5.55) 61(-2.25,5.55) 62(-2.75,5.55) 63(-3.25,5.55) 64(-3.75,5.55)
Top Overlay:
  circle w0.25: c-5.55,4.45 r0.125
  circle w0.6: c-3.25,3.25 r0.3
  lines w0.2: -4.25,-4.25 -4.25,4.25 4.25,4.25 4.25,-4.25 -4.25,-4.25
Mechanical 13:
  circle w0.1: c-4.1,4.1 r0.5
  lines w0.1: -5,-5 -5,5 5,5 5,-5 -5,-5
Mechanical 15:
  lines w0.1: -0.5,0 0.5,0 ; 0,-0.5 0,0.5 ; -6.7,-6.7 -6.7,6.7 6.7,6.7 6.7,-6.7 -6.7,-6.7
3D body: height 1.6, standoff 0, extent -5,-5 5,5

## PN080_L [mm] "80-Pin Thin Quad Flat Pack 0.5 mm Pitch, IPC High Density"
height 1.6
pads (80):
  oval 1.55x0.25 smd: 1(-6.525,4.75) 2(-6.525,4.25) 3(-6.525,3.75) 4(-6.525,3.25) 5(-6.525,2.75) 6(-6.525,2.25) 7(-6.525,1.75) 8(-6.525,1.25) 9(-6.525,0.75) 10(-6.525,0.25) 11(-6.525,-0.25) 12(-6.525,-0.75) 13(-6.525,-1.25) 14(-6.525,-1.75) 15(-6.525,-2.25) 16(-6.525,-2.75) 17(-6.525,-3.25) 18(-6.525,-3.75) 19(-6.525,-4.25) 20(-6.525,-4.75) 41(6.525,-4.75) 42(6.525,-4.25) 43(6.525,-3.75) 44(6.525,-3.25) 45(6.525,-2.75) 46(6.525,-2.25) 47(6.525,-1.75) 48(6.525,-1.25) 49(6.525,-0.75) 50(6.525,-0.25) 51(6.525,0.25) 52(6.525,0.75) 53(6.525,1.25) 54(6.525,1.75) 55(6.525,2.25) 56(6.525,2.75) 57(6.525,3.25) 58(6.525,3.75) 59(6.525,4.25) 60(6.525,4.75)
  oval 0.25x1.55 smd: 21(-4.75,-6.525) 22(-4.25,-6.525) 23(-3.75,-6.525) 24(-3.25,-6.525) 25(-2.75,-6.525) 26(-2.25,-6.525) 27(-1.75,-6.525) 28(-1.25,-6.525) 29(-0.75,-6.525) 30(-0.25,-6.525) 31(0.25,-6.525) 32(0.75,-6.525) 33(1.25,-6.525) 34(1.75,-6.525) 35(2.25,-6.525) 36(2.75,-6.525) 37(3.25,-6.525) 38(3.75,-6.525) 39(4.25,-6.525) 40(4.75,-6.525) 61(4.75,6.525) 62(4.25,6.525) 63(3.75,6.525) 64(3.25,6.525) 65(2.75,6.525) 66(2.25,6.525) 67(1.75,6.525) 68(1.25,6.525) 69(0.75,6.525) 70(0.25,6.525) 71(-0.25,6.525) 72(-0.75,6.525) 73(-1.25,6.525) 74(-1.75,6.525) 75(-2.25,6.525) 76(-2.75,6.525) 77(-3.25,6.525) 78(-3.75,6.525) 79(-4.25,6.525) 80(-4.75,6.525)
Top Overlay:
  circle w0.6: c-4.35,4.35 r0.3
  circle w0.25: c-6.525,5.425 r0.125
  lines w0.2: -5.35,-5.35 5.35,-5.35 5.35,5.35 -5.35,5.35 -5.35,-5.35
Mechanical 13:
  circle w0.1: c-5.1,5.1 r0.5
  lines w0.1: -6,-6 6,-6 6,6 -6,6 -6,-6
Mechanical 15:
  lines w0.1: -0.5,0 0.5,0 ; 0,-0.5 0,0.5 ; -7.4,-7.4 7.4,-7.4 7.4,7.4 -7.4,7.4 -7.4,-7.4
3D body: height 1.6, standoff 0, extent -6,-6 6,6

## PN080_M [mm] "80-Pin Thin Quad Flat Pack 0.5 mm Pitch, IPC Low Density"
height 1.6
pads (80):
  oval 2.1x0.3 smd: 1(-6.6,4.75) 2(-6.6,4.25) 3(-6.6,3.75) 4(-6.6,3.25) 5(-6.6,2.75) 6(-6.6,2.25) 7(-6.6,1.75) 8(-6.6,1.25) 9(-6.6,0.75) 10(-6.6,0.25) 11(-6.6,-0.25) 12(-6.6,-0.75) 13(-6.6,-1.25) 14(-6.6,-1.75) 15(-6.6,-2.25) 16(-6.6,-2.75) 17(-6.6,-3.25) 18(-6.6,-3.75) 19(-6.6,-4.25) 20(-6.6,-4.75) 41(6.6,-4.75) 42(6.6,-4.25) 43(6.6,-3.75) 44(6.6,-3.25) 45(6.6,-2.75) 46(6.6,-2.25) 47(6.6,-1.75) 48(6.6,-1.25) 49(6.6,-0.75) 50(6.6,-0.25) 51(6.6,0.25) 52(6.6,0.75) 53(6.6,1.25) 54(6.6,1.75) 55(6.6,2.25) 56(6.6,2.75) 57(6.6,3.25) 58(6.6,3.75) 59(6.6,4.25) 60(6.6,4.75)
  oval 0.3x2.1 smd: 21(-4.75,-6.6) 22(-4.25,-6.6) 23(-3.75,-6.6) 24(-3.25,-6.6) 25(-2.75,-6.6) 26(-2.25,-6.6) 27(-1.75,-6.6) 28(-1.25,-6.6) 29(-0.75,-6.6) 30(-0.25,-6.6) 31(0.25,-6.6) 32(0.75,-6.6) 33(1.25,-6.6) 34(1.75,-6.6) 35(2.25,-6.6) 36(2.75,-6.6) 37(3.25,-6.6) 38(3.75,-6.6) 39(4.25,-6.6) 40(4.75,-6.6) 61(4.75,6.6) 62(4.25,6.6) 63(3.75,6.6) 64(3.25,6.6) 65(2.75,6.6) 66(2.25,6.6) 67(1.75,6.6) 68(1.25,6.6) 69(0.75,6.6) 70(0.25,6.6) 71(-0.25,6.6) 72(-0.75,6.6) 73(-1.25,6.6) 74(-1.75,6.6) 75(-2.25,6.6) 76(-2.75,6.6) 77(-3.25,6.6) 78(-3.75,6.6) 79(-4.25,6.6) 80(-4.75,6.6)
Top Overlay:
  circle w0.6: c-4.15,4.15 r0.3
  circle w0.25: c-6.6,5.45 r0.125
  lines w0.2: -5.15,-5.15 5.15,-5.15 5.15,5.15 -5.15,5.15 -5.15,-5.15
Mechanical 13:
  circle w0.1: c-5.1,5.1 r0.5
  lines w0.1: -6,-6 6,-6 6,6 -6,6 -6,-6
Mechanical 15:
  lines w0.1: -0.5,0 0.5,0 ; 0,-0.5 0,0.5 ; -8.15,-8.15 8.15,-8.15 8.15,8.15 -8.15,8.15 -8.15,-8.15
3D body: height 1.6, standoff 0, extent -6,-6 6,6

## PN080_N [mm] "80-Pin Thin Quad Flat Pack 0.5 mm Pitch, IPC Medium Density"
height 1.6
pads (80):
  oval 1.8x0.3 smd: 1(-6.55,4.75) 2(-6.55,4.25) 3(-6.55,3.75) 4(-6.55,3.25) 5(-6.55,2.75) 6(-6.55,2.25) 7(-6.55,1.75) 8(-6.55,1.25) 9(-6.55,0.75) 10(-6.55,0.25) 11(-6.55,-0.25) 12(-6.55,-0.75) 13(-6.55,-1.25) 14(-6.55,-1.75) 15(-6.55,-2.25) 16(-6.55,-2.75) 17(-6.55,-3.25) 18(-6.55,-3.75) 19(-6.55,-4.25) 20(-6.55,-4.75) 41(6.55,-4.75) 42(6.55,-4.25) 43(6.55,-3.75) 44(6.55,-3.25) 45(6.55,-2.75) 46(6.55,-2.25) 47(6.55,-1.75) 48(6.55,-1.25) 49(6.55,-0.75) 50(6.55,-0.25) 51(6.55,0.25) 52(6.55,0.75) 53(6.55,1.25) 54(6.55,1.75) 55(6.55,2.25) 56(6.55,2.75) 57(6.55,3.25) 58(6.55,3.75) 59(6.55,4.25) 60(6.55,4.75)
  oval 0.3x1.8 smd: 21(-4.75,-6.55) 22(-4.25,-6.55) 23(-3.75,-6.55) 24(-3.25,-6.55) 25(-2.75,-6.55) 26(-2.25,-6.55) 27(-1.75,-6.55) 28(-1.25,-6.55) 29(-0.75,-6.55) 30(-0.25,-6.55) 31(0.25,-6.55) 32(0.75,-6.55) 33(1.25,-6.55) 34(1.75,-6.55) 35(2.25,-6.55) 36(2.75,-6.55) 37(3.25,-6.55) 38(3.75,-6.55) 39(4.25,-6.55) 40(4.75,-6.55) 61(4.75,6.55) 62(4.25,6.55) 63(3.75,6.55) 64(3.25,6.55) 65(2.75,6.55) 66(2.25,6.55) 67(1.75,6.55) 68(1.25,6.55) 69(0.75,6.55) 70(0.25,6.55) 71(-0.25,6.55) 72(-0.75,6.55) 73(-1.25,6.55) 74(-1.75,6.55) 75(-2.25,6.55) 76(-2.75,6.55) 77(-3.25,6.55) 78(-3.75,6.55) 79(-4.25,6.55) 80(-4.75,6.55)
Top Overlay:
  circle w0.6: c-4.25,4.25 r0.3
  circle w0.25: c-6.55,5.45 r0.125
  lines w0.2: -5.25,-5.25 5.25,-5.25 5.25,5.25 -5.25,5.25 -5.25,-5.25
Mechanical 13:
  circle w0.1: c-5.1,5.1 r0.5
  lines w0.1: -6,-6 6,-6 6,6 -6,6 -6,-6
Mechanical 15:
  lines w0.1: -0.5,0 0.5,0 ; 0,-0.5 0,0.5 ; -7.7,-7.7 7.7,-7.7 7.7,7.7 -7.7,7.7 -7.7,-7.7
3D body: height 1.6, standoff 0, extent -6,-6 6,6

## PNP128_L [mm] "128-Pin Plastic Quad Flat Pack PowerPAD 0.4mm Pitch, IPC High Density"
height 1.2
pads (129):
  oval 1.55x0.2 smd: 1(-7.525,6.2) 2(-7.525,5.8) 3(-7.525,5.4) 4(-7.525,5) 5(-7.525,4.6) 6(-7.525,4.2) 7(-7.525,3.8) 8(-7.525,3.4) 9(-7.525,3) 10(-7.525,2.6) 11(-7.525,2.2) 12(-7.525,1.8) 13(-7.525,1.4) 14(-7.525,1) 15(-7.525,0.6) 16(-7.525,0.2) 17(-7.525,-0.2) 18(-7.525,-0.6) 19(-7.525,-1) 20(-7.525,-1.4) 21(-7.525,-1.8) 22(-7.525,-2.2) 23(-7.525,-2.6) 24(-7.525,-3) 25(-7.525,-3.4) 26(-7.525,-3.8) 27(-7.525,-4.2) 28(-7.525,-4.6) 29(-7.525,-5) 30(-7.525,-5.4) 31(-7.525,-5.8) 32(-7.525,-6.2) 65(7.525,-6.2) 66(7.525,-5.8) 67(7.525,-5.4) 68(7.525,-5) 69(7.525,-4.6) 70(7.525,-4.2) 71(7.525,-3.8) 72(7.525,-3.4) 73(7.525,-3) 74(7.525,-2.6) 75(7.525,-2.2) 76(7.525,-1.8) 77(7.525,-1.4) 78(7.525,-1) 79(7.525,-0.6) 80(7.525,-0.2) 81(7.525,0.2) 82(7.525,0.6) 83(7.525,1) 84(7.525,1.4) 85(7.525,1.8) 86(7.525,2.2) 87(7.525,2.6) 88(7.525,3) 89(7.525,3.4) 90(7.525,3.8) 91(7.525,4.2) 92(7.525,4.6) 93(7.525,5) 94(7.525,5.4) 95(7.525,5.8) 96(7.525,6.2)
  oval 0.2x1.55 smd: 33(-6.2,-7.525) 34(-5.8,-7.525) 35(-5.4,-7.525) 36(-5,-7.525) 37(-4.6,-7.525) 38(-4.2,-7.525) 39(-3.8,-7.525) 40(-3.4,-7.525) 41(-3,-7.525) 42(-2.6,-7.525) 43(-2.2,-7.525) 44(-1.8,-7.525) 45(-1.4,-7.525) 46(-1,-7.525) 47(-0.6,-7.525) 48(-0.2,-7.525) 49(0.2,-7.525) 50(0.6,-7.525) 51(1,-7.525) 52(1.4,-7.525) 53(1.8,-7.525) 54(2.2,-7.525) 55(2.6,-7.525) 56(3,-7.525) 57(3.4,-7.525) 58(3.8,-7.525) 59(4.2,-7.525) 60(4.6,-7.525) 61(5,-7.525) 62(5.4,-7.525) 63(5.8,-7.525) 64(6.2,-7.525) 97(6.2,7.525) 98(5.8,7.525) 99(5.4,7.525) 100(5,7.525) 101(4.6,7.525) 102(4.2,7.525) 103(3.8,7.525) 104(3.4,7.525) 105(3,7.525) 106(2.6,7.525) 107(2.2,7.525) 108(1.8,7.525) 109(1.4,7.525) 110(1,7.525) 111(0.6,7.525) 112(0.2,7.525) 113(-0.2,7.525) 114(-0.6,7.525) 115(-1,7.525) 116(-1.4,7.525) 117(-1.8,7.525) 118(-2.2,7.525) 119(-2.6,7.525) 120(-3,7.525) 121(-3.4,7.525) 122(-3.8,7.525) 123(-4.2,7.525) 124(-4.6,7.525) 125(-5,7.525) 126(-5.4,7.525) 127(-5.8,7.525) 128(-6.2,7.525)
  rect 12x12 smd: 129(0,0)
via 0,0 diameter 0.43 hole 0.33
via 1.5,0 diameter 0.43 hole 0.33
via 3,0 diameter 0.43 hole 0.33
via 4.5,0 diameter 0.43 hole 0.33
via -1.5,0 diameter 0.43 hole 0.33
via -3,0 diameter 0.43 hole 0.33
via -4.5,0 diameter 0.43 hole 0.33
via -4.5,-1.5 diameter 0.43 hole 0.33
via -3,-1.5 diameter 0.43 hole 0.33
via -1.5,-1.5 diameter 0.43 hole 0.33
via 0,-1.5 diameter 0.43 hole 0.33
via 1.5,-1.5 diameter 0.43 hole 0.33
via 3,-1.5 diameter 0.43 hole 0.33
via 4.5,-1.5 diameter 0.43 hole 0.33
via 4.5,-3 diameter 0.43 hole 0.33
via 3,-3 diameter 0.43 hole 0.33
via 1.5,-3 diameter 0.43 hole 0.33
via 0,-3 diameter 0.43 hole 0.33
via -1.5,-3 diameter 0.43 hole 0.33
via -3,-3 diameter 0.43 hole 0.33
via -4.5,-3 diameter 0.43 hole 0.33
via 4.5,1.5 diameter 0.43 hole 0.33
via 3,1.5 diameter 0.43 hole 0.33
via 1.5,1.5 diameter 0.43 hole 0.33
via 0,1.5 diameter 0.43 hole 0.33
via -1.5,1.5 diameter 0.43 hole 0.33
via -3,1.5 diameter 0.43 hole 0.33
via -4.5,1.5 diameter 0.43 hole 0.33
via 4.5,3 diameter 0.43 hole 0.33
via 3,3 diameter 0.43 hole 0.33
via 1.5,3 diameter 0.43 hole 0.33
via 0,3 diameter 0.43 hole 0.33
via -1.5,3 diameter 0.43 hole 0.33
via -3,3 diameter 0.43 hole 0.33
via -4.5,3 diameter 0.43 hole 0.33
via 4.5,4.5 diameter 0.43 hole 0.33
via 3,4.5 diameter 0.43 hole 0.33
via 1.5,4.5 diameter 0.43 hole 0.33
via 0,4.5 diameter 0.43 hole 0.33
via -1.5,4.5 diameter 0.43 hole 0.33
via -3,4.5 diameter 0.43 hole 0.33
via -4.5,4.5 diameter 0.43 hole 0.33
via 4.5,-4.5 diameter 0.43 hole 0.33
via 3,-4.5 diameter 0.43 hole 0.33
via 1.5,-4.5 diameter 0.43 hole 0.33
via 0,-4.5 diameter 0.43 hole 0.33
via -1.5,-4.5 diameter 0.43 hole 0.33
via -3,-4.5 diameter 0.43 hole 0.33
via -4.5,-4.5 diameter 0.43 hole 0.33
Top Overlay:
  circle w0.6: c-5.35,5.35 r0.3
  circle w0.25: c-7.525,6.85 r0.125
  lines w0.2: -6.35,-6.35 6.35,-6.35 6.35,6.35 -6.35,6.35 -6.35,-6.35
Mechanical 13:
  circle w0.1: c-6.1,6.1 r0.5
  lines w0.1: -7,-7 7,-7 7,7 -7,7 -7,-7
Mechanical 15:
  lines w0.1: -0.5,0 0.5,0 ; 0,-0.5 0,0.5 ; -8.4,-8.4 8.4,-8.4 8.4,8.4 -8.4,8.4 -8.4,-8.4
3D body: height 1.2, standoff 0, extent -7,-7 7,7